# EAGLE library part LEVEL-SHIFTER_NVT2003DP (library HuskyRobotics2017-18)
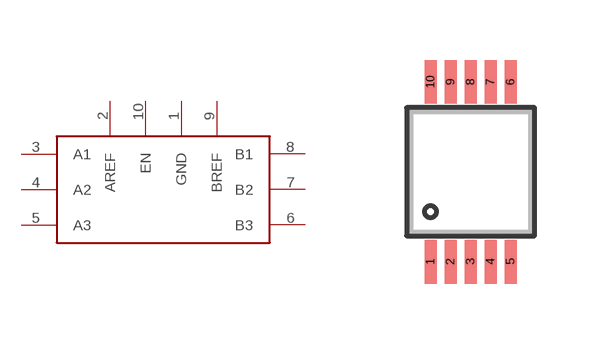
[diagram p5: symbol with the pads of TSSOP10; footprint TSSOP10]

Designator prefix -

## LEVEL-SHIFTER_NVT2003DPNVT_2003DP_LEVEL_SHIFTER  [TSSOP10]
1  GND
2  AREF
3  A1
4  A2
5  A3
6  B3
7  B2
8  B1
9  BREF
10  EN

## Footprint TSSOP10 (pad centres in mm)
Description: NXT TSSOP10 Package, Source. <https://www.nxp.com/docs/en/package-information/SOT552-1.pdf>
smd 0.3 x 1.1: 1 -1,-2.25; 2 -0.5,-2.25; 3 0,-2.25; 4 0.5,-2.25; 5 1,-2.25; 6 1,2.25; 7 0.5,2.25; 8 0,2.25; 9 -0.5,2.25; 10 -1,2.25